# Altium footprint library All.PcbLib: 121 footprints (part 6 of 8)
Each footprint in its own frame and in the unit in brackets; x right, y up, seen from the top. Pads: shape width x height; smd on the part's side, far side on the other; paste and mask are expansions set on the pad; w line width, h text height; cw(c..) or ccw(c..) is an arc to the next point about the centre after c.
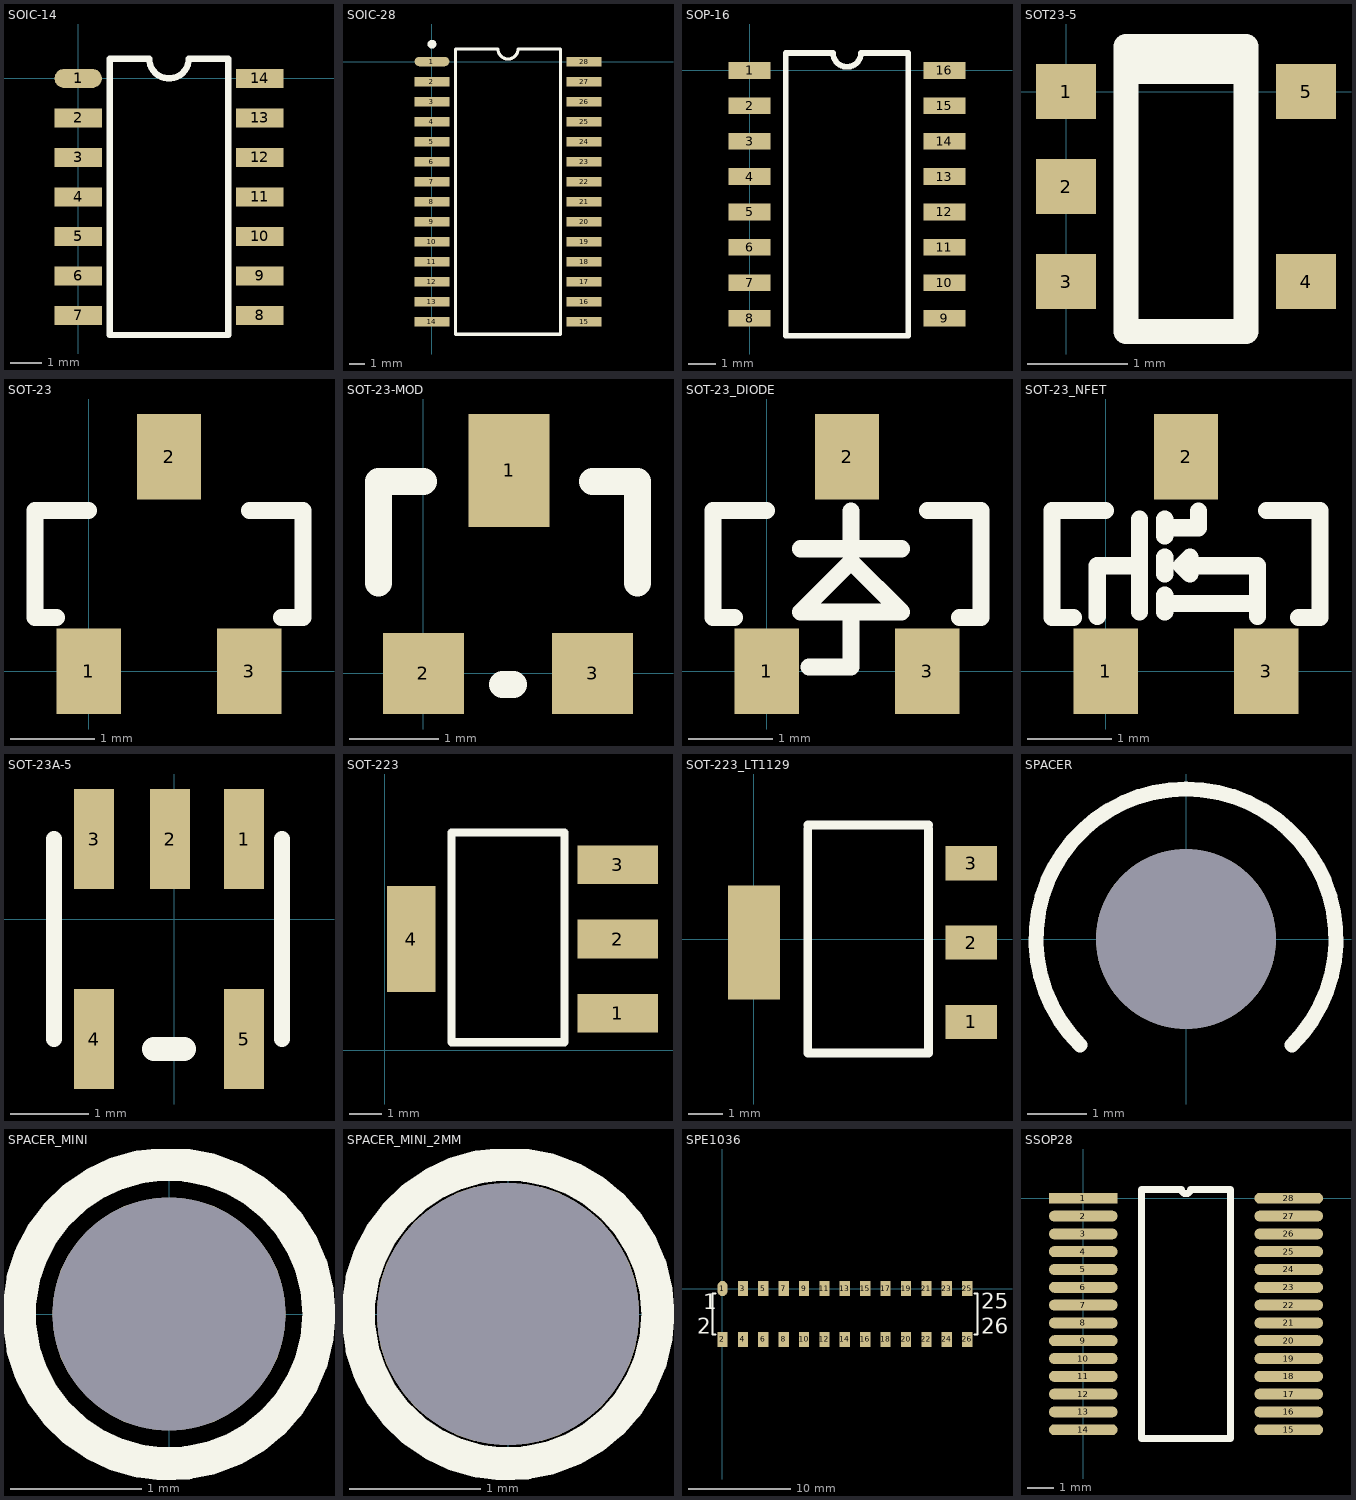
[diagram p5: the footprints below, top view; thin cyan lines are the x and y axes]

## SOIC-14 [mil]
pads (14):
  oval 60x24 smd: 1(0,0)
  rect 60x24 smd: 2(0,-50) 3(0,-100) 4(0,-150) 5(0,-200) 6(0,-250) 7(0,-300) 8(230,-300) 9(230,-250) 10(230,-200) 11(230,-150) 12(230,-100) 13(230,-50) 14(230,0)
Top Overlay:
  lines w8: 40,-325 190,-325 190,25 140,25 cw(c115,25) 90,25 40,25 40,-325

## SOIC-28 [mm]
pads (28):
  oval 2.2x0.6 smd: 1(0,0)
  rect 2.2x0.6 smd: 2(0,-1.27) 3(0,-2.54) 4(0,-3.81) 5(0,-5.08) 6(0,-6.35) 7(0,-7.62) 8(0,-8.89) 9(0,-10.16) 10(0,-11.43) 11(0,-12.7) 12(0,-13.97) 13(0,-15.24) 14(0,-16.51) 15(9.65,-16.51) 16(9.65,-15.24) 17(9.65,-13.97) 18(9.65,-12.7) 19(9.65,-11.43) 20(9.65,-10.16) 21(9.65,-8.89) 22(9.65,-7.62) 23(9.65,-6.35) 24(9.65,-5.08) 25(9.65,-3.81) 26(9.65,-2.54) 27(9.65,-1.27) 28(9.65,0)
Top Overlay:
  circle w0.25: c0,1.1 r0.15
  lines w0.203: 1.5,-17.305 8.15,-17.305 8.15,0.795 5.46,0.795 cw(c4.825,0.795) 4.19,0.795 1.5,0.795 1.5,-17.305

## SOP-16 [mm]
pads (16):
  rect 1.5x0.6 smd: 1(0,0) 2(0,-1.27) 3(0,-2.54) 4(0,-3.81) 5(0,-5.08) 6(0,-6.35) 7(0,-7.62) 8(0,-8.89) 9(7,-8.89) 10(7,-7.62) 11(7,-6.35) 12(7,-5.08) 13(7,-3.81) 14(7,-2.54) 15(7,-1.27) 16(7,0)
Top Overlay:
  lines w0.203: 1.3,-9.52 5.7,-9.52 5.7,0.63 4,0.63 cw(c3.5,0.63) 3,0.63 1.3,0.63 1.3,-9.52

## SOT23-5 [mm]
pads (5):
  rect 0.6x0.55 smd: 1(0,0) 2(0,-0.95) 3(0,-1.9) 4(2.4,-1.9) 5(2.4,0)
Top Overlay:
  lines w0.2: 0.6,-2.4 0.6,0.45 ; 1.8,-2.4 1.8,0.45
  lines w0.254: 0.6,0.2 0.9,0.2 1.4,0.2 1.8,0.2 ; 0.6,-2.4 1.8,-2.4 1.8,0.45 0.6,0.45 0.6,-2.4

## SOT-23 [mil]
pads (3):
  rect 30x40 smd: 1(0,0) 2(37.5,100) 3(75,0)
Top Overlay:
  lines w8: -15,25 -25,25 -25,75 0,75 ; 75,75 100,75 100,25 90,25

## SOT-23-MOD [mil]
pads (3):
  rect 36x50 smd: 1(38,90)
  rect 36x36 smd: 2(0,0) 3(75,0)
Top Overlay:
  lines w12: -20,40 -20,85 0,85 ; 35,-5 40,-5 ; 75,85 95,85 95,40

## SOT-23_DIODE [mil]
pads (3):
  rect 30x40 smd: 1(0,0) 2(37.5,100) 3(75,0)
Top Overlay:
  lines w8: -15,25 -25,25 -25,75 0,75 ; 15.75,57.09 62.99,57.09 ; 19.68,1.97 39.37,1.97 39.37,27.56 ; 39.37,57.09 39.37,74.8 ; 75,75 100,75 100,25 90,25 ; 15.75,27.56 39.37,51.18 62.99,27.56 15.75,27.56

## SOT-23_NFET [mil]
pads (3):
  rect 30x40 smd: 1(0,0) 2(37.5,100) 3(75,0)
Top Overlay:
  lines w8: -15,25 -25,25 -25,75 0,75 ; -3.94,25.59 -3.94,49.21 15.75,49.21 ; 15.75,27.56 15.75,70.87 ; 27.56,27.56 27.56,35.43 ; 27.56,31.5 70.87,31.5 ; 27.56,45.28 27.56,53.15 ; 27.56,62.99 27.56,70.87 ; 27.56,66.93 43.31,66.93 43.31,74.8 ; 39.37,49.21 70.87,49.21 70.87,25.59 ; 75,75 100,75 100,25 90,25 ; 35.43,49.21 39.37,53.15 39.37,45.28 35.43,49.21

## SOT-23A-5 [mil]
pads (5):
  rect 20x50 smd: 1(35,40) 2(-2,40) 3(-40,40) 4(-40,-60) 5(35,-60)
Top Overlay:
  lines w8: -60,-60 -60,40 ; 54,-60 54,40
  lines w12: -10,-65 5,-65

## SOT-223 [mm]
pads (4):
  rect 2.5x1.2 smd: 1(7.22,1.156) 2(7.22,3.456) 3(7.22,5.756)
  rect 1.5x3.3 smd: 4(0.816,3.456)
Top Overlay:
  lines w0.254: 2.07,6.756 2.07,0.256 5.57,0.256 5.57,6.756 2.12,6.756

## SOT-223_LT1129 [mil] "SOT-223 for LT1129 Voltage Regulator"
pads (4):
  rect 59x39 smd: 1(248,-94.49) 2(248,-3.94) 3(248,86.61)
  rect 59.05x129.92 smd: ""(0,-3.94)
Top Overlay:
  lines w10: 61.5,125.98 61.5,-129.92 199.29,-129.92 199.29,125.98 ; 61.5,130.08 199.29,130.08

## SPACER [mil]
pads (1):
  round 120 hole 120: ""(0,0)
Top Overlay:
  lines w10: -70.71,-70.71 cw(c0,0) 70.71,-70.71
Bottom Overlay:
  lines w10: -70.71,-70.71 cw(c0,0) 70.71,-70.71

## SPACER_MINI [mil]
pads (1):
  round 70 hole 70: ""(0,0)
Top Overlay:
  circle w10: c0,0 r45

## SPACER_MINI_2MM [mm]
pads (1):
  round 2 hole 2: ""(0,0)
Top Overlay:
  circle w0.254: c0,0 r1.143

## SPE1036 [mm]
pads (26):
  oval 1x1.5 smd: 1(0,0)
  rect 1x1.5 smd: 2(0,-5) 3(2,0) 4(2,-5) 5(4,0) 6(4,-5) 7(6,0) 8(6,-5) 9(8,0) 10(8,-5) 11(10,0) 12(10,-5) 13(12,0) 14(12,-5) 15(14,0) 16(14,-5) 17(16,0) 18(16,-5) 19(18,0) 20(18,-5) 21(20,0) 22(20,-5) 23(22,0) 24(22,-5) 25(24,0) 26(24,-5)
Top Overlay:
  lines w0.203: -0.7,-4.5 -1,-4.5 -1,-0.5 -0.7,-0.5 ; 24.7,-4.5 25,-4.5 25,-0.5 24.7,-0.5
  text "26" at 25.4,-4.45 h1.52
  text "2" at -2.5,-4.45 h1.52
  text "1" at -1.9,-2.05 h1.52
  text "25" at 25.4,-2 h1.52

## SSOP28 [mil]
pads (28):
  rect 100x16 smd: 1(0,0)
  oval 100x16 smd: 2(0,-26) 3(0,-52) 4(0,-78) 5(0,-104) 6(0,-130) 7(0,-156) 8(0,-182) 9(0,-208) 10(0,-234) 11(0,-260) 12(0,-286) 13(0,-312) 14(0,-338) 15(300,-338) 16(300,-312) 17(300,-286) 18(300,-260) 19(300,-234) 20(300,-208) 21(300,-182) 22(300,-156) 23(300,-130) 24(300,-104) 25(300,-78) 26(300,-52) 27(300,-26) 28(300,0)
Top Overlay:
  lines w10: 85,-351 85,13 143.5,13 ccw(c150,13) 156.5,13 215,13 215,-351 85,-351